# Altium schematic symbol library 7M-16.000MAAE-T.SchLib: 1 symbol
Pins are listed as number, name and electrical type; pins without a type are passive.

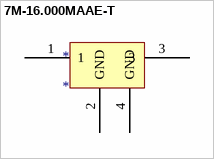
[diagram p0: symbol 7M-16.000MAAE-T]

## 7M-16.000MAAE-T
designator *
footprint 7M-16.000MAAE-T
pins: 1, 2 GND, 3, 4 GND